# Altium schematic symbol library DATA_ACQUISITION.SchLib: 1 symbol
Pins are listed as number, name and electrical type; pins without a type are passive.

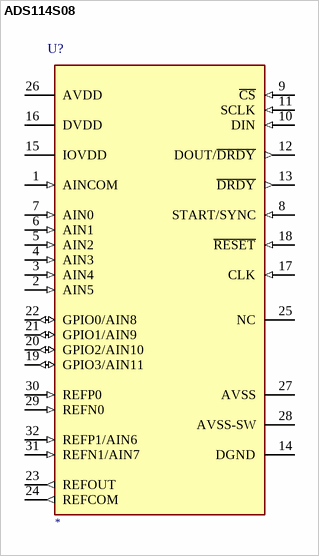
[diagram p0: symbol ADS114S08]

## ADS114S08
designator U?
IC ADC 16BIT SIGMA-DELTA; Manufacturer Part Number: *
pins: 1 AINCOM (in), 2 AIN5 (in), 3 AIN4 (in), 4 AIN3 (in), 5 AIN2 (in), 6 AIN1 (in), 7 AIN0 (in), 8 START/SYNC (in), 9 ~{CS} (in), 10 DIN (in), 11 SCLK (in), 12 DOUT/~{DRDY} (out), 13 ~{DRDY} (out), 14 DGND, 15 IOVDD, 16 DVDD, 17 CLK (in), 18 ~{RESET} (in), 19 GPIO3/AIN11 (io), 20 GPIO2/AIN10 (io), 21 GPIO1/AIN9 (io), 22 GPIO0/AIN8 (io), 23 REFOUT (out), 24 REFCOM (out), 25 NC, 26 AVDD, 27 AVSS, 28 AVSS-SW, 29 REFN0 (in), 30 REFP0 (in), 31 REFN1/AIN7 (in), 32 REFP1/AIN6 (in)